# Altium footprint library TMC2209.PcbLib: 1 footprints
Each footprint in its own frame and in the unit in brackets; x right, y up, seen from the top. Pads: shape width x height; smd on the part's side, far side on the other; paste and mask are expansions set on the pad; w line width, h text height; cw(c..) or ccw(c..) is an arc to the next point about the centre after c.
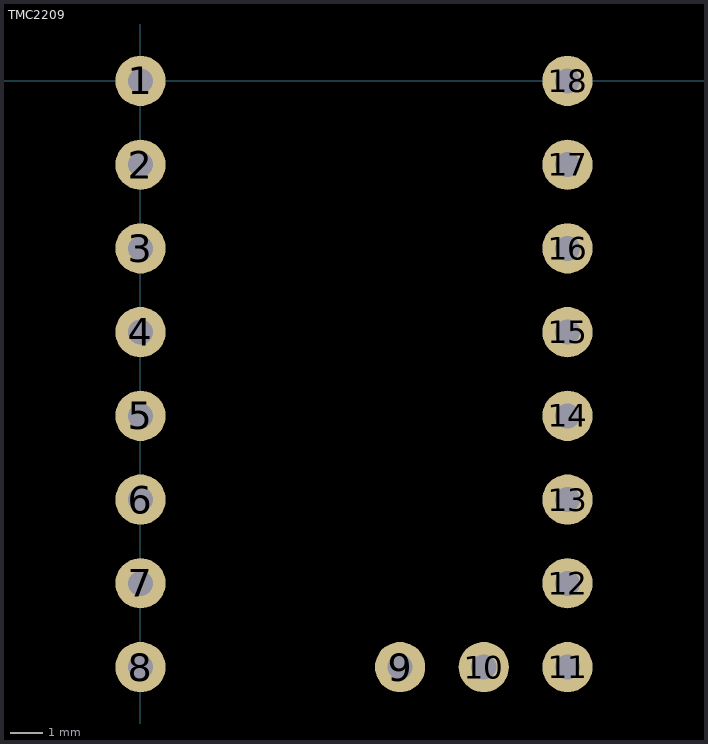
[diagram p0: the footprint, top view; thin cyan lines are the x and y axes]

## TMC2209 [mil]
pads (18):
  round 60 hole 30: 1(0,0) 2(0,-100) 3(0,-200) 4(0,-300) 5(0,-400) 6(0,-500) 7(0,-600) 8(0,-700) 9(310,-700) 10(410,-700) 11(510,-700) 12(510,-600) 13(510,-500) 14(510,-400) 15(510,-300) 16(510,-200) 17(510,-100) 18(510,0)
3D body "BTT TMC2209-V1.2.STEP": height 541.34, standoff -329.92, extent -45,-750 555,50